# EAGLE library part AOZ2255EQI-30 (library AOZ2255EQI-30)
Synchronous DC to DC Buck Regulator Source: Datasheet <http://www.aosmd.com/res/data_sheets/AOZ2255EQI-30.pdf>
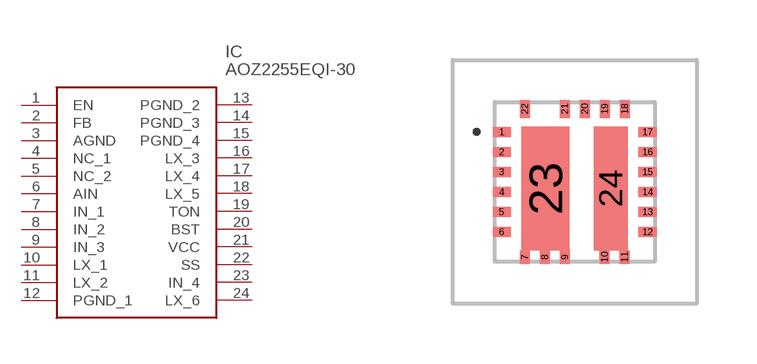
[diagram p0: symbol with the pads of AOZ2255EQI30; footprint AOZ2255EQI30]

Designator prefix IC

## AOZ2255EQI-30 (Arrow_Part_Number: AOZ2255EQI-30; Arrow_Price-Stock: https://www.arrow.com/en/products/aoz2255eqi-30/alpha-and-omega-semiconductor; Description: Synchronous DC to DC Buck Regulator; Height: 1.05mm; Manufacturer_Name: Alpha & Omega Semiconductors; Manufacturer_Part_Number: AOZ2255EQI-30)  [AOZ2255EQI30]
1  EN
2  FB
3  AGND
4  NC_1
5  NC_2
6  AIN
7  IN_1
8  IN_2
9  IN_3
10  LX_1
11  LX_2
12  PGND_1
13  PGND_2
14  PGND_3
15  PGND_4
16  LX_3
17  LX_4
18  LX_5
19  TON
20  BST
21  VCC
22  SS
23  IN_4
24  LX_6

## Footprint AOZ2255EQI30 (pad centres in mm)
22-Pin 4mm x 4mm QFN
smd 0.45 x 0.25: 1 -1.825,1.25; 2 -1.825,0.75; 3 -1.825,0.25; 4 -1.825,-0.25; 5 -1.825,-0.75; 6 -1.825,-1.25; 12 1.825,-1.25; 13 1.825,-0.75; 14 1.825,-0.25; 15 1.825,0.25; 16 1.825,0.75; 17 1.825,1.25
smd 0.25 x 0.33: 7 -1.25,-1.885; 8 -0.75,-1.885; 9 -0.25,-1.885; 10 0.745,-1.885; 11 1.245,-1.885
smd 0.25 x 0.45: 18 1.25,1.825; 19 0.75,1.825; 20 0.25,1.825; 21 -0.25,1.825; 22 -1.25,1.825
smd 1.205 x 3.1: 23 -0.728,-0.17
smd 0.855 x 3.1: 24 0.903,-0.17